# EAGLE library part LTC2804 (library Public)
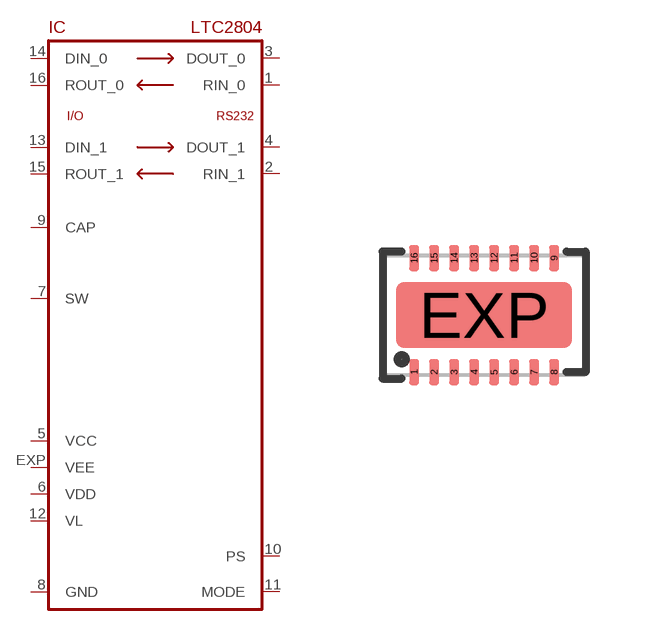
[diagram p228: symbol with the pads of DFN16_5X3; footprint DFN16_5X3]

Designator prefix IC

## LTC2804  [DFN16_5X3]
1  RIN_0
2  RIN_1
3  DOUT_0
4  DOUT_1
5  VCC
6  VDD
7  SW
8  GND
9  CAP
10  PS
11  MODE
12  VL
13  DIN_1
14  DIN_0
15  ROUT_1
16  ROUT_0
EXP  VEE

## Footprint DFN16_5X3 (pad centres in mm)
smd 0.25 x 0.65: 1 -1.75,-1.425; 2 -1.25,-1.425; 3 -0.75,-1.425; 4 -0.25,-1.425; 5 0.25,-1.425; 6 0.75,-1.425; 7 1.25,-1.425; 8 1.75,-1.425; 9 1.75,1.425; 10 1.25,1.425; 11 0.75,1.425; 12 0.25,1.425; 13 -0.25,1.425; 14 -0.75,1.425; 15 -1.25,1.425; 16 -1.75,1.425
smd 4.4 x 1.65: EXP 0,0